# Altium integrated library yildiziotlib.IntLib: 1 symbol
Pins are listed as number, name and electrical type; pins without a type are passive.

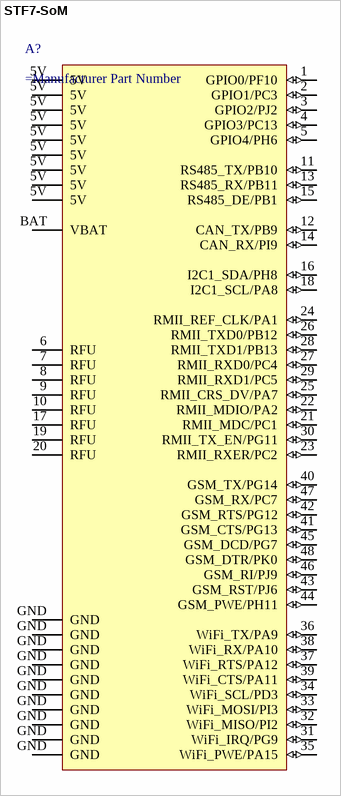
[diagram p0: symbol STF7-SoM]

## STF7-SoM
designator A?
STM32F7 System On Module
footprint STF7-SoM (Yildiz IoT STM32F7 System On Module)
pins: 1 GPIO0/PF10 (io), 2 GPIO1/PC3 (io), 3 GPIO2/PJ2 (io), 4 GPIO3/PC13 (io), 5 GPIO4/PH6 (io), 5V, 5V, 5V (power), 5V (power), 5V (power), 5V (power), 5V (power), 5V, 5V, 6 RFU, 7 RFU, 8 RFU, 9 RFU, 10 RFU, 11 RS485_TX/PB10 (io), 12 CAN_TX/PB9 (io), 13 RS485_RX/PB11 (io), 14 CAN_RX/PI9 (io), 15 RS485_DE/PB1 (io), 16 I2C1_SDA/PH8 (io), 17 RFU, 18 I2C1_SCL/PA8 (io), 19 RFU, 20 RFU, 21 RMII_MDC/PC1 (io), 22 RMII_MDIO/PA2 (io), 23 RMII_RXER/PC2 (io), 24 RMII_REF_CLK/PA1 (io), 25 RMII_CRS_DV/PA7 (io), 26 RMII_TXD0/PB12 (io), 27 RMII_RXD0/PC4 (io), 28 RMII_TXD1/PB13 (io), 29 RMII_RXD1/PC5 (io), 30 RMII_TX_EN/PG11 (io), 31 WiFi_IRQ/PG9 (io), 32 WiFi_MISO/PI2 (io), 33 WiFi_MOSI/PI3 (io), 34 WiFi_SCL/PD3 (io), 35 WiFi_PWE/PA15 (io), 36 WiFi_TX/PA9 (io), 37 WiFi_RTS/PA12 (io), 38 WiFi_RX/PA10 (io), 39 WiFi_CTS/PA11 (io), 40 GSM_TX/PG14 (io), 41 GSM_CTS/PG13 (io), 42 GSM_RTS/PG12 (io), 43 GSM_RST/PJ6 (io), 44 GSM_PWE/PH11 (io), 45 GSM_DCD/PG7 (io), 46 GSM_RI/PJ9 (io), 47 GSM_RX/PC7 (io), 48 GSM_DTR/PK0 (io), BAT VBAT, GND (power), GND (power), GND (power), GND (power), GND (power), GND (power), GND (power), GND (power), GND (power), GND (power)
1 alternate drawing of the same symbol